# Altium integrated library Renesas Memory.IntLib: 284 symbols (part 5 of 9)
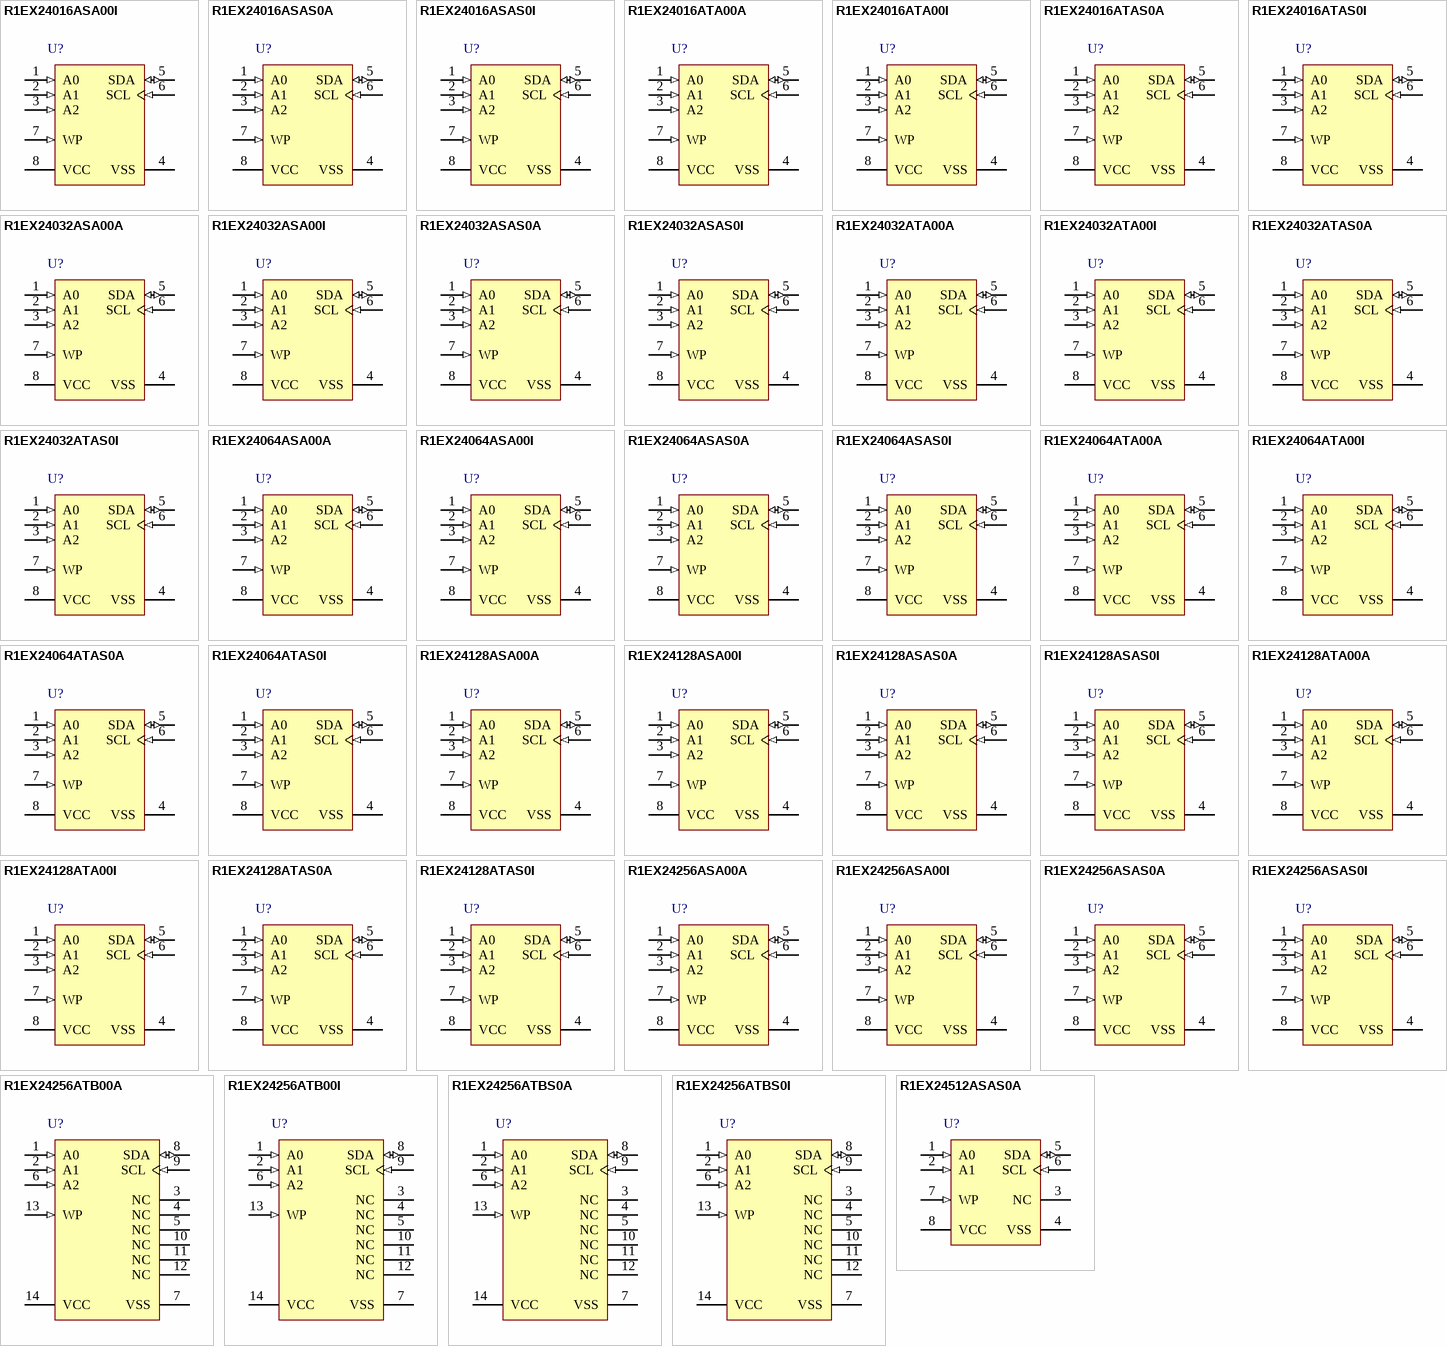
[diagram p19: symbols R1EX24016ASA00I to R1EX24512ASAS0A]

## R1EX24256ATBS0A
designator U?
R1EX24xxx Series two-wire serial interface 256k EEPROM (32-kword × 8-bit); Published: 3-Mar-2010; DatasheetVersion: Rev.1.01, Jan-2009; PackageVersion: Sep-2005; PackageReference: PTSP0014JA-B; Publisher: Altium Limited; PackageDescription: 14-Pin Plastic Thin Small Outline Package 0.65 mm Pitch; Code_JEITA: P-TSSOP14-4.4x5-0.65; ComponentLink1Description: Manufacturer Link; ComponentLink1URL: http://sg.renesas.com/products/memory/memory_category_landing.jsp; ComponentLink2Description: Datasheet; ComponentLink2URL: http://documentation.renesas.com/eng/products/memory/rej03c0322_r1ex24256axxs0ads.pdf; ComponentLink3Description: Packaging Specification; ComponentLink3URL: http://sg.renesas.com/media/products/common_info/package/pdf/ic/code/ptsp0014ja_b.pdf
footprint PTSP0014JA-B_N (TSOP, 14-Leads, Body 5x4.4mm, Pitch 0.65mm, IPC Medium Density)
footprint PTSP0014JA-B_L (TSOP, 14-Leads, Body 5x4.4mm, Pitch 0.65mm, IPC High Density)
footprint PTSP0014JA-B_M (TSOP, 14-Leads, Body 5x4.4mm, Pitch 0.65mm, IPC Low Density)
pins: 1 A0 (in), 2 A1 (in), 3 NC, 4 NC, 5 NC, 6 A2 (in), 7 VSS (power), 8 SDA (io), 9 SCL (in), 10 NC, 11 NC, 12 NC, 13 WP (in), 14 VCC (power)

## R1EX24256ATBS0I
designator U?
R1EX24xxx Series two-wire serial interface 256k EEPROM (32-kword × 8-bit); Published: 3-Mar-2010; DatasheetVersion: Rev.1.00, Oct-2009; PackageVersion: Sep-2005; PackageReference: PTSP0014JA-B; Publisher: Altium Limited; PackageDescription: 14-Pin Plastic Thin Small Outline Package 0.65 mm Pitch; Code_JEITA: P-TSSOP14-4.4x5-0.65; ComponentLink1Description: Manufacturer Link; ComponentLink1URL: http://sg.renesas.com/products/memory/memory_category_landing.jsp; ComponentLink2Description: Datasheet; ComponentLink2URL: http://documentation.renesas.com/eng/products/memory/rej03c0327_r1ex24256axxs0ids.pdf; ComponentLink3Description: Packaging Specification; ComponentLink3URL: http://sg.renesas.com/media/products/common_info/package/pdf/ic/code/ptsp0014ja_b.pdf
footprint PTSP0014JA-B_N (TSOP, 14-Leads, Body 5x4.4mm, Pitch 0.65mm, IPC Medium Density)
footprint PTSP0014JA-B_L (TSOP, 14-Leads, Body 5x4.4mm, Pitch 0.65mm, IPC High Density)
footprint PTSP0014JA-B_M (TSOP, 14-Leads, Body 5x4.4mm, Pitch 0.65mm, IPC Low Density)
pins: 1 A0 (in), 2 A1 (in), 3 NC, 4 NC, 5 NC, 6 A2 (in), 7 VSS (power), 8 SDA (io), 9 SCL (in), 10 NC, 11 NC, 12 NC, 13 WP (in), 14 VCC (power)

## R1EX24512ASAS0A
designator U?
R1EX24xxx Series two-wire serial interface 512k EEPROM (64-kword × 8-bit); Published: 3-Mar-2010; DatasheetVersion: Rev.1.01, Jan-2009; PackageVersion: Sep-2005; PackageReference: PRSP0008DF-B; Publisher: Altium Limited; PackageDescription: 8-Pin Plastic Small Outline Integrated Circuit 1.27 mm Pitch; Code_JEITA: P-SOP8-3.9x4.89-1.27; ComponentLink1Description: Manufacturer Link; ComponentLink1URL: http://sg.renesas.com/products/memory/memory_category_landing.jsp; ComponentLink2Description: Datasheet; ComponentLink2URL: http://documentation.renesas.com/eng/products/memory/rej03c0325_r1ex24512axxs0ads.pdf; ComponentLink3Description: Packaging Specification; ComponentLink3URL: http://sg.renesas.com/media/products/common_info/package/pdf/ic/code/prsp0008df_b.pdf
footprint PRSP0008DF-B_N (SOIC, 8-Leads, Body 4.9x3.9mm, Pitch 1.27mm, IPC Medium Density)
footprint PRSP0008DF-B_L (SOIC, 8-Leads, Body 4.9x3.9mm, Pitch 1.27mm, IPC High Density)
footprint PRSP0008DF-B_M (SOIC, 8-Leads, Body 4.9x3.9mm, Pitch 1.27mm, IPC Low Density)
pins: 1 A0 (in), 2 A1 (in), 3 NC, 4 VSS (power), 5 SDA (io), 6 SCL (in), 7 WP (in), 8 VCC (power)

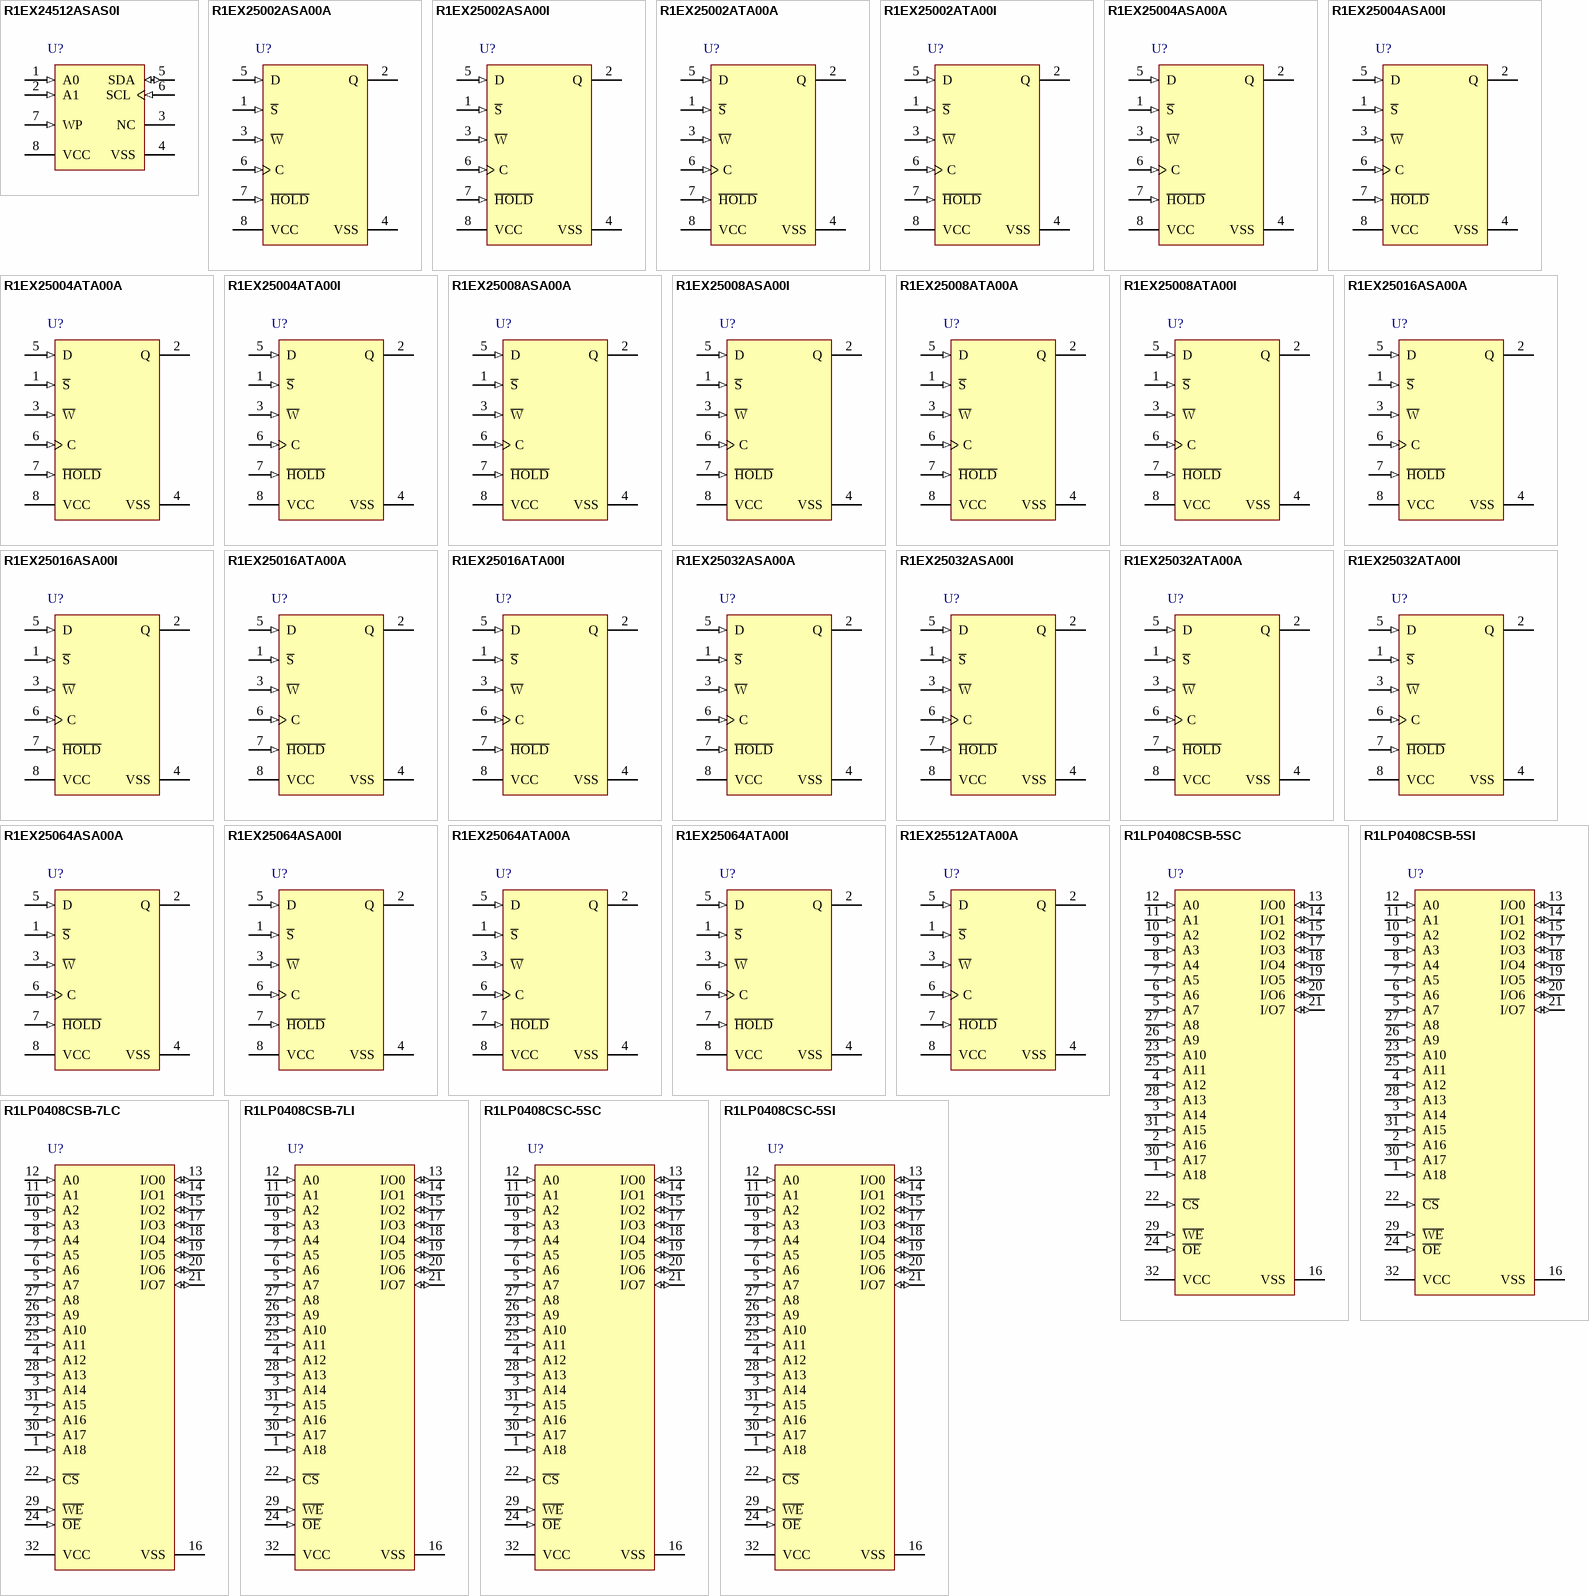
[diagram p7: symbols R1EX24512ASAS0I to R1LP0408CSC-5SI]

## R1EX24512ASAS0I
designator U?
R1EX24xxx Series two-wire serial interface 512k EEPROM (64-kword × 8-bit); Published: 3-Mar-2010; DatasheetVersion: Rev.0.03, Jan-2009; PackageVersion: Sep-2005; PackageReference: PRSP0008DF-B; Publisher: Altium Limited; PackageDescription: 8-Pin Plastic Small Outline Integrated Circuit 1.27 mm Pitch; Code_JEITA: P-SOP8-3.9x4.89-1.27; ComponentLink1Description: Manufacturer Link; ComponentLink1URL: http://sg.renesas.com/products/memory/memory_category_landing.jsp; ComponentLink2Description: Datasheet; ComponentLink2URL: http://documentation.renesas.com/eng/products/memory/rej03c0330_r1ex24512asas0ids.pdf; ComponentLink3Description: Packaging Specification; ComponentLink3URL: http://sg.renesas.com/media/products/common_info/package/pdf/ic/code/prsp0008df_b.pdf
footprint PRSP0008DF-B_N (SOIC, 8-Leads, Body 4.9x3.9mm, Pitch 1.27mm, IPC Medium Density)
footprint PRSP0008DF-B_L (SOIC, 8-Leads, Body 4.9x3.9mm, Pitch 1.27mm, IPC High Density)
footprint PRSP0008DF-B_M (SOIC, 8-Leads, Body 4.9x3.9mm, Pitch 1.27mm, IPC Low Density)
pins: 1 A0 (in), 2 A1 (in), 3 NC, 4 VSS (power), 5 SDA (io), 6 SCL (in), 7 WP (in), 8 VCC (power)

## R1EX25002ASA00A
designator U?
R1EX25xxx Series Serial Peripheral Interface 2k EEPROM (256-word × 8-bit); Published: 3-Mar-2010; DatasheetVersion: Rev.0.02, Jan-2009; PackageVersion: Sep-2005; PackageReference: PRSP0008DF-B; Publisher: Altium Limited; PackageDescription: 8-Pin Plastic Small Outline Integrated Circuit 1.27 mm Pitch; Code_JEITA: P-SOP8-3.9x4.89-1.27; ComponentLink1Description: Manufacturer Link; ComponentLink1URL: http://sg.renesas.com/products/memory/memory_category_landing.jsp; ComponentLink2Description: Datasheet; ComponentLink2URL: http://documentation.renesas.com/eng/products/memory/rej03c0357_r1ex2500204axx00ads.pdf; ComponentLink3Description: Packaging Specification; ComponentLink3URL: http://sg.renesas.com/media/products/common_info/package/pdf/ic/code/prsp0008df_b.pdf
footprint PRSP0008DF-B_N (SOIC, 8-Leads, Body 4.9x3.9mm, Pitch 1.27mm, IPC Medium Density)
footprint PRSP0008DF-B_L (SOIC, 8-Leads, Body 4.9x3.9mm, Pitch 1.27mm, IPC High Density)
footprint PRSP0008DF-B_M (SOIC, 8-Leads, Body 4.9x3.9mm, Pitch 1.27mm, IPC Low Density)
pins: 1 ~{S} (in), 2 Q (hiz), 3 ~{W} (in), 4 VSS (power), 5 D (in), 6 C (in), 7 ~{HOLD} (in), 8 VCC (power)

## R1EX25002ASA00I
designator U?
R1EX25xxx Series Serial Peripheral Interface 2k EEPROM (256-word × 8-bit); Published: 3-Mar-2010; DatasheetVersion: Rev.0.02, Jan-2009; PackageVersion: Sep-2005; PackageReference: PRSP0008DF-B; Publisher: Altium Limited; PackageDescription: 8-Pin Plastic Small Outline Integrated Circuit 1.27 mm Pitch; Code_JEITA: P-SOP8-3.9x4.89-1.27; ComponentLink1Description: Manufacturer Link; ComponentLink1URL: http://sg.renesas.com/products/memory/memory_category_landing.jsp; ComponentLink2Description: Datasheet; ComponentLink2URL: http://documentation.renesas.com/eng/products/memory/rej03c0361_r1ex2500204axx00ids.pdf; ComponentLink3Description: Packaging Specification; ComponentLink3URL: http://sg.renesas.com/media/products/common_info/package/pdf/ic/code/prsp0008df_b.pdf
footprint PRSP0008DF-B_N (SOIC, 8-Leads, Body 4.9x3.9mm, Pitch 1.27mm, IPC Medium Density)
footprint PRSP0008DF-B_L (SOIC, 8-Leads, Body 4.9x3.9mm, Pitch 1.27mm, IPC High Density)
footprint PRSP0008DF-B_M (SOIC, 8-Leads, Body 4.9x3.9mm, Pitch 1.27mm, IPC Low Density)
pins: 1 ~{S} (in), 2 Q (hiz), 3 ~{W} (in), 4 VSS (power), 5 D (in), 6 C (in), 7 ~{HOLD} (in), 8 VCC (power)

## R1EX25002ATA00A
designator U?
R1EX25xxx Series Serial Peripheral Interface 2k EEPROM (256-word × 8-bit); Published: 3-Mar-2010; DatasheetVersion: Rev.0.02, Jan-2009; PackageVersion: Sep-2005; PackageReference: PTSP0008JC-B; Publisher: Altium Limited; PackageDescription: 8-Pin Plastic Thin Small Outline Package 0.65 mm Pitch (TSSOP-8); Code_JEITA: P-TSSOP8-4.4x3-0.65; ComponentLink1Description: Manufacturer Link; ComponentLink1URL: http://sg.renesas.com/products/memory/memory_category_landing.jsp; ComponentLink2Description: Datasheet; ComponentLink2URL: http://documentation.renesas.com/eng/products/memory/rej03c0357_r1ex2500204axx00ads.pdf; ComponentLink3Description: Packaging Specification; ComponentLink3URL: http://sg.renesas.com/media/products/common_info/package/pdf/ic/code/ptsp0008jc_b.pdf
footprint PTSP0008JC-B_N (TSOP, 8-Leads, Body 3x4.4mm, Pitch 0.65mm, IPC Medium Density)
footprint PTSP0008JC-B_L (TSOP, 8-Leads, Body 3x4.4mm, Pitch 0.65mm, IPC High Density)
footprint PTSP0008JC-B_M (TSOP, 8-Leads, Body 3x4.4mm, Pitch 0.65mm, IPC Low Density)
pins: 1 ~{S} (in), 2 Q (hiz), 3 ~{W} (in), 4 VSS (power), 5 D (in), 6 C (in), 7 ~{HOLD} (in), 8 VCC (power)

## R1EX25002ATA00I
designator U?
R1EX25xxx Series Serial Peripheral Interface 2k EEPROM (256-word × 8-bit); Published: 3-Mar-2010; DatasheetVersion: Rev.0.02, Jan-2009; PackageVersion: Sep-2005; PackageReference: PTSP0008JC-B; Publisher: Altium Limited; PackageDescription: 8-Pin Plastic Thin Small Outline Package 0.65 mm Pitch (TSSOP-8); Code_JEITA: P-TSSOP8-4.4x3-0.65; ComponentLink1Description: Manufacturer Link; ComponentLink1URL: http://sg.renesas.com/products/memory/memory_category_landing.jsp; ComponentLink2Description: Datasheet; ComponentLink2URL: http://documentation.renesas.com/eng/products/memory/rej03c0361_r1ex2500204axx00ids.pdf; ComponentLink3Description: Packaging Specification; ComponentLink3URL: http://sg.renesas.com/media/products/common_info/package/pdf/ic/code/ptsp0008jc_b.pdf
footprint PTSP0008JC-B_N (TSOP, 8-Leads, Body 3x4.4mm, Pitch 0.65mm, IPC Medium Density)
footprint PTSP0008JC-B_L (TSOP, 8-Leads, Body 3x4.4mm, Pitch 0.65mm, IPC High Density)
footprint PTSP0008JC-B_M (TSOP, 8-Leads, Body 3x4.4mm, Pitch 0.65mm, IPC Low Density)
pins: 1 ~{S} (in), 2 Q (hiz), 3 ~{W} (in), 4 VSS (power), 5 D (in), 6 C (in), 7 ~{HOLD} (in), 8 VCC (power)

## R1EX25004ASA00A
designator U?
R1EX25xxx Series Serial Peripheral Interface 4k EEPROM (512-word × 8-bit); Published: 3-Mar-2010; DatasheetVersion: Rev.0.02, Jan-2009; PackageVersion: Sep-2005; PackageReference: PRSP0008DF-B; Publisher: Altium Limited; PackageDescription: 8-Pin Plastic Small Outline Integrated Circuit 1.27 mm Pitch; Code_JEITA: P-SOP8-3.9x4.89-1.27; ComponentLink1Description: Manufacturer Link; ComponentLink1URL: http://sg.renesas.com/products/memory/memory_category_landing.jsp; ComponentLink2Description: Datasheet; ComponentLink2URL: http://documentation.renesas.com/eng/products/memory/rej03c0357_r1ex2500204axx00ads.pdf; ComponentLink3Description: Packaging Specification; ComponentLink3URL: http://sg.renesas.com/media/products/common_info/package/pdf/ic/code/prsp0008df_b.pdf
footprint PRSP0008DF-B_N (SOIC, 8-Leads, Body 4.9x3.9mm, Pitch 1.27mm, IPC Medium Density)
footprint PRSP0008DF-B_L (SOIC, 8-Leads, Body 4.9x3.9mm, Pitch 1.27mm, IPC High Density)
footprint PRSP0008DF-B_M (SOIC, 8-Leads, Body 4.9x3.9mm, Pitch 1.27mm, IPC Low Density)
pins: 1 ~{S} (in), 2 Q (hiz), 3 ~{W} (in), 4 VSS (power), 5 D (in), 6 C (in), 7 ~{HOLD} (in), 8 VCC (power)

## R1EX25004ASA00I
designator U?
R1EX25xxx Series Serial Peripheral Interface 4k EEPROM (512-word × 8-bit); Published: 3-Mar-2010; DatasheetVersion: Rev.0.02, Jan-2009; PackageVersion: Sep-2005; PackageReference: PRSP0008DF-B; Publisher: Altium Limited; PackageDescription: 8-Pin Plastic Small Outline Integrated Circuit 1.27 mm Pitch; Code_JEITA: P-SOP8-3.9x4.89-1.27; ComponentLink1Description: Manufacturer Link; ComponentLink1URL: http://sg.renesas.com/products/memory/memory_category_landing.jsp; ComponentLink2Description: Datasheet; ComponentLink2URL: http://documentation.renesas.com/eng/products/memory/rej03c0361_r1ex2500204axx00ids.pdf; ComponentLink3Description: Packaging Specification; ComponentLink3URL: http://sg.renesas.com/media/products/common_info/package/pdf/ic/code/prsp0008df_b.pdf
footprint PRSP0008DF-B_N (SOIC, 8-Leads, Body 4.9x3.9mm, Pitch 1.27mm, IPC Medium Density)
footprint PRSP0008DF-B_L (SOIC, 8-Leads, Body 4.9x3.9mm, Pitch 1.27mm, IPC High Density)
footprint PRSP0008DF-B_M (SOIC, 8-Leads, Body 4.9x3.9mm, Pitch 1.27mm, IPC Low Density)
pins: 1 ~{S} (in), 2 Q (hiz), 3 ~{W} (in), 4 VSS (power), 5 D (in), 6 C (in), 7 ~{HOLD} (in), 8 VCC (power)

## R1EX25004ATA00A
designator U?
R1EX25xxx Series Serial Peripheral Interface 4k EEPROM (512-word × 8-bit); Published: 3-Mar-2010; DatasheetVersion: Rev.0.02, Jan-2009; PackageVersion: Sep-2005; PackageReference: PTSP0008JC-B; Publisher: Altium Limited; PackageDescription: 8-Pin Plastic Thin Small Outline Package 0.65 mm Pitch (TSSOP-8); Code_JEITA: P-TSSOP8-4.4x3-0.65; ComponentLink1Description: Manufacturer Link; ComponentLink1URL: http://sg.renesas.com/products/memory/memory_category_landing.jsp; ComponentLink2Description: Datasheet; ComponentLink2URL: http://documentation.renesas.com/eng/products/memory/rej03c0357_r1ex2500204axx00ads.pdf; ComponentLink3Description: Packaging Specification; ComponentLink3URL: http://sg.renesas.com/media/products/common_info/package/pdf/ic/code/ptsp0008jc_b.pdf
footprint PTSP0008JC-B_N (TSOP, 8-Leads, Body 3x4.4mm, Pitch 0.65mm, IPC Medium Density)
footprint PTSP0008JC-B_L (TSOP, 8-Leads, Body 3x4.4mm, Pitch 0.65mm, IPC High Density)
footprint PTSP0008JC-B_M (TSOP, 8-Leads, Body 3x4.4mm, Pitch 0.65mm, IPC Low Density)
pins: 1 ~{S} (in), 2 Q (hiz), 3 ~{W} (in), 4 VSS (power), 5 D (in), 6 C (in), 7 ~{HOLD} (in), 8 VCC (power)

## R1EX25004ATA00I
designator U?
R1EX25xxx Series Serial Peripheral Interface 4k EEPROM (512-word × 8-bit); Published: 3-Mar-2010; DatasheetVersion: Rev.0.02, Jan-2009; PackageVersion: Sep-2005; PackageReference: PTSP0008JC-B; Publisher: Altium Limited; PackageDescription: 8-Pin Plastic Thin Small Outline Package 0.65 mm Pitch (TSSOP-8); Code_JEITA: P-TSSOP8-4.4x3-0.65; ComponentLink1Description: Manufacturer Link; ComponentLink1URL: http://sg.renesas.com/products/memory/memory_category_landing.jsp; ComponentLink2Description: Datasheet; ComponentLink2URL: http://documentation.renesas.com/eng/products/memory/rej03c0361_r1ex2500204axx00ids.pdf; ComponentLink3Description: Packaging Specification; ComponentLink3URL: http://sg.renesas.com/media/products/common_info/package/pdf/ic/code/ptsp0008jc_b.pdf
footprint PTSP0008JC-B_N (TSOP, 8-Leads, Body 3x4.4mm, Pitch 0.65mm, IPC Medium Density)
footprint PTSP0008JC-B_L (TSOP, 8-Leads, Body 3x4.4mm, Pitch 0.65mm, IPC High Density)
footprint PTSP0008JC-B_M (TSOP, 8-Leads, Body 3x4.4mm, Pitch 0.65mm, IPC Low Density)
pins: 1 ~{S} (in), 2 Q (hiz), 3 ~{W} (in), 4 VSS (power), 5 D (in), 6 C (in), 7 ~{HOLD} (in), 8 VCC (power)

## R1EX25008ASA00A
designator U?
R1EX25xxx Series Serial Peripheral Interface 8k EEPROM (1024-word × 8-bit); Published: 3-Mar-2010; DatasheetVersion: Rev.1.00, Jul-2009; PackageVersion: Sep-2005; PackageReference: PRSP0008DF-B; Publisher: Altium Limited; PackageDescription: 8-Pin Plastic Small Outline Integrated Circuit 1.27 mm Pitch; Code_JEITA: P-SOP8-3.9x4.89-1.27; ComponentLink1Description: Manufacturer Link; ComponentLink1URL: http://sg.renesas.com/products/memory/memory_category_landing.jsp; ComponentLink2Description: Datasheet; ComponentLink2URL: http://documentation.renesas.com/eng/products/memory/rej03c0385_r1ex2500816axx00ads.pdf; ComponentLink3Description: Packaging Specification; ComponentLink3URL: http://sg.renesas.com/media/products/common_info/package/pdf/ic/code/prsp0008df_b.pdf
footprint PRSP0008DF-B_N (SOIC, 8-Leads, Body 4.9x3.9mm, Pitch 1.27mm, IPC Medium Density)
footprint PRSP0008DF-B_L (SOIC, 8-Leads, Body 4.9x3.9mm, Pitch 1.27mm, IPC High Density)
footprint PRSP0008DF-B_M (SOIC, 8-Leads, Body 4.9x3.9mm, Pitch 1.27mm, IPC Low Density)
pins: 1 ~{S} (in), 2 Q (hiz), 3 ~{W} (in), 4 VSS (power), 5 D (in), 6 C (in), 7 ~{HOLD} (in), 8 VCC (power)

## R1EX25008ASA00I
designator U?
R1EX25xxx Series Serial Peripheral Interface 8k EEPROM (1024-word × 8-bit); Published: 3-Mar-2010; DatasheetVersion: Rev.1.00, Nov-2009; PackageVersion: Sep-2005; PackageReference: PRSP0008DF-B; Publisher: Altium Limited; PackageDescription: 8-Pin Plastic Small Outline Integrated Circuit 1.27 mm Pitch; Code_JEITA: P-SOP8-3.9x4.89-1.27; ComponentLink1Description: Manufacturer Link; ComponentLink1URL: http://sg.renesas.com/products/memory/memory_category_landing.jsp; ComponentLink2Description: Datasheet; ComponentLink2URL: http://documentation.renesas.com/eng/products/memory/rej03c0396_r1ex2500816axx00ids.pdf; ComponentLink3Description: Packaging Specification; ComponentLink3URL: http://sg.renesas.com/media/products/common_info/package/pdf/ic/code/prsp0008df_b.pdf
footprint PRSP0008DF-B_N (SOIC, 8-Leads, Body 4.9x3.9mm, Pitch 1.27mm, IPC Medium Density)
footprint PRSP0008DF-B_L (SOIC, 8-Leads, Body 4.9x3.9mm, Pitch 1.27mm, IPC High Density)
footprint PRSP0008DF-B_M (SOIC, 8-Leads, Body 4.9x3.9mm, Pitch 1.27mm, IPC Low Density)
pins: 1 ~{S} (in), 2 Q (hiz), 3 ~{W} (in), 4 VSS (power), 5 D (in), 6 C (in), 7 ~{HOLD} (in), 8 VCC (power)

## R1EX25008ATA00A
designator U?
R1EX25xxx Series Serial Peripheral Interface 8k EEPROM (1024-word × 8-bit); Published: 3-Mar-2010; DatasheetVersion: Rev.1.00, Jul-2009; PackageVersion: Sep-2007; PackageReference: PTSP0008JB-B; Publisher: Altium Limited; PackageDescription: 8-Pin Plastic Thin Small Outline Package 0.65 mm Pitch (TSSOP-8); Code_JEITA: P-TSSOP8-4.4×3-0.65; ComponentLink1Description: Manufacturer Link; ComponentLink1URL: http://sg.renesas.com/products/memory/memory_category_landing.jsp; ComponentLink2Description: Datasheet; ComponentLink2URL: http://documentation.renesas.com/eng/products/memory/rej03c0385_r1ex2500816axx00ads.pdf
footprint PTSP0008JB-B_N (TSOP, 8-Leads, Body 3x4.4mm, Pitch 0.65mm, IPC Medium Density)
footprint PTSP0008JB-B_L (TSOP, 8-Leads, Body 3x4.4mm, Pitch 0.65mm, IPC High Density)
footprint PTSP0008JB-B_M (TSOP, 8-Leads, Body 3x4.4mm, Pitch 0.65mm, IPC Low Density)
pins: 1 ~{S} (in), 2 Q (hiz), 3 ~{W} (in), 4 VSS (power), 5 D (in), 6 C (in), 7 ~{HOLD} (in), 8 VCC (power)

## R1EX25008ATA00I
designator U?
R1EX25xxx Series Serial Peripheral Interface 8k EEPROM (1024-word × 8-bit); Published: 3-Mar-2010; DatasheetVersion: Rev.1.00, Nov-2009; PackageVersion: Sep-2005; PackageReference: PTSP0008JC-B; Publisher: Altium Limited; PackageDescription: 8-Pin Plastic Thin Small Outline Package 0.65 mm Pitch (TSSOP-8); Code_JEITA: P-TSSOP8-4.4x3-0.65; ComponentLink1Description: Manufacturer Link; ComponentLink1URL: http://sg.renesas.com/products/memory/memory_category_landing.jsp; ComponentLink2Description: Datasheet; ComponentLink2URL: http://documentation.renesas.com/eng/products/memory/rej03c0396_r1ex2500816axx00ids.pdf; ComponentLink3Description: Packaging Specification; ComponentLink3URL: http://sg.renesas.com/media/products/common_info/package/pdf/ic/code/ptsp0008jc_b.pdf
footprint PTSP0008JC-B_N (TSOP, 8-Leads, Body 3x4.4mm, Pitch 0.65mm, IPC Medium Density)
footprint PTSP0008JC-B_L (TSOP, 8-Leads, Body 3x4.4mm, Pitch 0.65mm, IPC High Density)
footprint PTSP0008JC-B_M (TSOP, 8-Leads, Body 3x4.4mm, Pitch 0.65mm, IPC Low Density)
pins: 1 ~{S} (in), 2 Q (hiz), 3 ~{W} (in), 4 VSS (power), 5 D (in), 6 C (in), 7 ~{HOLD} (in), 8 VCC (power)

## R1EX25016ASA00A
designator U?
R1EX25xxx Series Serial Peripheral Interface 16k EEPROM (2048-word × 8-bit); Published: 3-Mar-2010; DatasheetVersion: Rev.1.00, Jul-2009; PackageVersion: Sep-2005; PackageReference: PRSP0008DF-B; Publisher: Altium Limited; PackageDescription: 8-Pin Plastic Small Outline Integrated Circuit 1.27 mm Pitch; Code_JEITA: P-SOP8-3.9x4.89-1.27; ComponentLink1Description: Manufacturer Link; ComponentLink1URL: http://sg.renesas.com/products/memory/memory_category_landing.jsp; ComponentLink2Description: Datasheet; ComponentLink2URL: http://documentation.renesas.com/eng/products/memory/rej03c0385_r1ex2500816axx00ads.pdf; ComponentLink3Description: Packaging Specification; ComponentLink3URL: http://sg.renesas.com/media/products/common_info/package/pdf/ic/code/prsp0008df_b.pdf
footprint PRSP0008DF-B_N (SOIC, 8-Leads, Body 4.9x3.9mm, Pitch 1.27mm, IPC Medium Density)
footprint PRSP0008DF-B_L (SOIC, 8-Leads, Body 4.9x3.9mm, Pitch 1.27mm, IPC High Density)
footprint PRSP0008DF-B_M (SOIC, 8-Leads, Body 4.9x3.9mm, Pitch 1.27mm, IPC Low Density)
pins: 1 ~{S} (in), 2 Q (hiz), 3 ~{W} (in), 4 VSS (power), 5 D (in), 6 C (in), 7 ~{HOLD} (in), 8 VCC (power)

## R1EX25016ASA00I
designator U?
R1EX25xxx Series Serial Peripheral Interface 16k EEPROM (2048-word × 8-bit); Published: 3-Mar-2010; DatasheetVersion: Rev.1.00, Nov-2009; PackageVersion: Sep-2005; PackageReference: PRSP0008DF-B; Publisher: Altium Limited; PackageDescription: 8-Pin Plastic Small Outline Integrated Circuit 1.27 mm Pitch; Code_JEITA: P-SOP8-3.9x4.89-1.27; ComponentLink1Description: Manufacturer Link; ComponentLink1URL: http://sg.renesas.com/products/memory/memory_category_landing.jsp; ComponentLink2Description: Datasheet; ComponentLink2URL: http://documentation.renesas.com/eng/products/memory/rej03c0396_r1ex2500816axx00ids.pdf; ComponentLink3Description: Packaging Specification; ComponentLink3URL: http://sg.renesas.com/media/products/common_info/package/pdf/ic/code/prsp0008df_b.pdf
footprint PRSP0008DF-B_N (SOIC, 8-Leads, Body 4.9x3.9mm, Pitch 1.27mm, IPC Medium Density)
footprint PRSP0008DF-B_L (SOIC, 8-Leads, Body 4.9x3.9mm, Pitch 1.27mm, IPC High Density)
footprint PRSP0008DF-B_M (SOIC, 8-Leads, Body 4.9x3.9mm, Pitch 1.27mm, IPC Low Density)
pins: 1 ~{S} (in), 2 Q (hiz), 3 ~{W} (in), 4 VSS (power), 5 D (in), 6 C (in), 7 ~{HOLD} (in), 8 VCC (power)

## R1EX25016ATA00A
designator U?
R1EX25xxx Series Serial Peripheral Interface 16k EEPROM (2048-word × 8-bit); Published: 3-Mar-2010; DatasheetVersion: Rev.1.00, Jul-2009; PackageVersion: Sep-2007; PackageReference: PTSP0008JB-B; Publisher: Altium Limited; PackageDescription: 8-Pin Plastic Thin Small Outline Package 0.65 mm Pitch (TSSOP-8); Code_JEITA: P-TSSOP8-4.4×3-0.65; ComponentLink1Description: Manufacturer Link; ComponentLink1URL: http://sg.renesas.com/products/memory/memory_category_landing.jsp; ComponentLink2Description: Datasheet; ComponentLink2URL: http://documentation.renesas.com/eng/products/memory/rej03c0385_r1ex2500816axx00ads.pdf
footprint PTSP0008JB-B_N (TSOP, 8-Leads, Body 3x4.4mm, Pitch 0.65mm, IPC Medium Density)
footprint PTSP0008JB-B_L (TSOP, 8-Leads, Body 3x4.4mm, Pitch 0.65mm, IPC High Density)
footprint PTSP0008JB-B_M (TSOP, 8-Leads, Body 3x4.4mm, Pitch 0.65mm, IPC Low Density)
pins: 1 ~{S} (in), 2 Q (hiz), 3 ~{W} (in), 4 VSS (power), 5 D (in), 6 C (in), 7 ~{HOLD} (in), 8 VCC (power)

## R1EX25016ATA00I
designator U?
R1EX25xxx Series Serial Peripheral Interface 16k EEPROM (2048-word × 8-bit); Published: 3-Mar-2010; DatasheetVersion: Rev.1.00, Nov-2009; PackageVersion: Sep-2005; PackageReference: PTSP0008JC-B; Publisher: Altium Limited; PackageDescription: 8-Pin Plastic Thin Small Outline Package 0.65 mm Pitch (TSSOP-8); Code_JEITA: P-TSSOP8-4.4x3-0.65; ComponentLink1Description: Manufacturer Link; ComponentLink1URL: http://sg.renesas.com/products/memory/memory_category_landing.jsp; ComponentLink2Description: Datasheet; ComponentLink2URL: http://documentation.renesas.com/eng/products/memory/rej03c0396_r1ex2500816axx00ids.pdf; ComponentLink3Description: Packaging Specification; ComponentLink3URL: http://sg.renesas.com/media/products/common_info/package/pdf/ic/code/ptsp0008jc_b.pdf
footprint PTSP0008JC-B_N (TSOP, 8-Leads, Body 3x4.4mm, Pitch 0.65mm, IPC Medium Density)
footprint PTSP0008JC-B_L (TSOP, 8-Leads, Body 3x4.4mm, Pitch 0.65mm, IPC High Density)
footprint PTSP0008JC-B_M (TSOP, 8-Leads, Body 3x4.4mm, Pitch 0.65mm, IPC Low Density)
pins: 1 ~{S} (in), 2 Q (hiz), 3 ~{W} (in), 4 VSS (power), 5 D (in), 6 C (in), 7 ~{HOLD} (in), 8 VCC (power)

## R1EX25032ASA00A
designator U?
R1EX25xxx Series Serial Peripheral Interface 32k EEPROM (4-kword × 8-bit); Published: 3-Mar-2010; DatasheetVersion: Rev.0.02, Jan-2009; PackageVersion: Sep-2005; PackageReference: PRSP0008DF-B; Publisher: Altium Limited; PackageDescription: 8-Pin Plastic Small Outline Integrated Circuit 1.27 mm Pitch; Code_JEITA: P-SOP8-3.9x4.89-1.27; ComponentLink1Description: Manufacturer Link; ComponentLink1URL: http://sg.renesas.com/products/memory/memory_category_landing.jsp; ComponentLink2Description: Datasheet; ComponentLink2URL: http://documentation.renesas.com/eng/products/memory/rej03c0358_r1ex2503264axx00ads.pdf; ComponentLink3Description: Packaging Specification; ComponentLink3URL: http://sg.renesas.com/media/products/common_info/package/pdf/ic/code/prsp0008df_b.pdf
footprint PRSP0008DF-B_N (SOIC, 8-Leads, Body 4.9x3.9mm, Pitch 1.27mm, IPC Medium Density)
footprint PRSP0008DF-B_L (SOIC, 8-Leads, Body 4.9x3.9mm, Pitch 1.27mm, IPC High Density)
footprint PRSP0008DF-B_M (SOIC, 8-Leads, Body 4.9x3.9mm, Pitch 1.27mm, IPC Low Density)
pins: 1 ~{S} (in), 2 Q (hiz), 3 ~{W} (in), 4 VSS (power), 5 D (in), 6 C (in), 7 ~{HOLD} (in), 8 VCC (power)

## R1EX25032ASA00I
designator U?
R1EX25xxx Series Serial Peripheral Interface 32k EEPROM (4-kword × 8-bit); Published: 3-Mar-2010; DatasheetVersion: Rev.0.02, Jan-2009; PackageVersion: Sep-2005; PackageReference: PRSP0008DF-B; Publisher: Altium Limited; PackageDescription: 8-Pin Plastic Small Outline Integrated Circuit 1.27 mm Pitch; Code_JEITA: P-SOP8-3.9x4.89-1.27; ComponentLink1Description: Manufacturer Link; ComponentLink1URL: http://sg.renesas.com/products/memory/memory_category_landing.jsp; ComponentLink2Description: Datasheet; ComponentLink2URL: http://documentation.renesas.com/eng/products/memory/rej03c0362_r1ex2503264axx00ids.pdf; ComponentLink3Description: Packaging Specification; ComponentLink3URL: http://sg.renesas.com/media/products/common_info/package/pdf/ic/code/prsp0008df_b.pdf
footprint PRSP0008DF-B_N (SOIC, 8-Leads, Body 4.9x3.9mm, Pitch 1.27mm, IPC Medium Density)
footprint PRSP0008DF-B_L (SOIC, 8-Leads, Body 4.9x3.9mm, Pitch 1.27mm, IPC High Density)
footprint PRSP0008DF-B_M (SOIC, 8-Leads, Body 4.9x3.9mm, Pitch 1.27mm, IPC Low Density)
pins: 1 ~{S} (in), 2 Q (hiz), 3 ~{W} (in), 4 VSS (power), 5 D (in), 6 C (in), 7 ~{HOLD} (in), 8 VCC (power)

## R1EX25032ATA00A
designator U?
R1EX25xxx Series Serial Peripheral Interface 32k EEPROM (4-kword × 8-bit); Published: 3-Mar-2010; DatasheetVersion: Rev.0.02, Jan-2009; PackageVersion: Sep-2005; PackageReference: PTSP0008JC-B; Publisher: Altium Limited; PackageDescription: 8-Pin Plastic Thin Small Outline Package 0.65 mm Pitch (TSSOP-8); Code_JEITA: P-TSSOP8-4.4x3-0.65; ComponentLink1Description: Manufacturer Link; ComponentLink1URL: http://sg.renesas.com/products/memory/memory_category_landing.jsp; ComponentLink2Description: Datasheet; ComponentLink2URL: http://documentation.renesas.com/eng/products/memory/rej03c0358_r1ex2503264axx00ads.pdf; ComponentLink3Description: Packaging Specification; ComponentLink3URL: http://sg.renesas.com/media/products/common_info/package/pdf/ic/code/ptsp0008jc_b.pdf
footprint PTSP0008JC-B_N (TSOP, 8-Leads, Body 3x4.4mm, Pitch 0.65mm, IPC Medium Density)
footprint PTSP0008JC-B_L (TSOP, 8-Leads, Body 3x4.4mm, Pitch 0.65mm, IPC High Density)
footprint PTSP0008JC-B_M (TSOP, 8-Leads, Body 3x4.4mm, Pitch 0.65mm, IPC Low Density)
pins: 1 ~{S} (in), 2 Q (hiz), 3 ~{W} (in), 4 VSS (power), 5 D (in), 6 C (in), 7 ~{HOLD} (in), 8 VCC (power)

## R1EX25032ATA00I
designator U?
R1EX25xxx Series Serial Peripheral Interface 32k EEPROM (4-kword × 8-bit); Published: 3-Mar-2010; DatasheetVersion: Rev.0.02, Jan-2009; PackageVersion: Sep-2005; PackageReference: PTSP0008JC-B; Publisher: Altium Limited; PackageDescription: 8-Pin Plastic Thin Small Outline Package 0.65 mm Pitch (TSSOP-8); Code_JEITA: P-TSSOP8-4.4x3-0.65; ComponentLink1Description: Manufacturer Link; ComponentLink1URL: http://sg.renesas.com/products/memory/memory_category_landing.jsp; ComponentLink2Description: Datasheet; ComponentLink2URL: http://documentation.renesas.com/eng/products/memory/rej03c0362_r1ex2503264axx00ids.pdf; ComponentLink3Description: Packaging Specification; ComponentLink3URL: http://sg.renesas.com/media/products/common_info/package/pdf/ic/code/ptsp0008jc_b.pdf
footprint PTSP0008JC-B_N (TSOP, 8-Leads, Body 3x4.4mm, Pitch 0.65mm, IPC Medium Density)
footprint PTSP0008JC-B_L (TSOP, 8-Leads, Body 3x4.4mm, Pitch 0.65mm, IPC High Density)
footprint PTSP0008JC-B_M (TSOP, 8-Leads, Body 3x4.4mm, Pitch 0.65mm, IPC Low Density)
pins: 1 ~{S} (in), 2 Q (hiz), 3 ~{W} (in), 4 VSS (power), 5 D (in), 6 C (in), 7 ~{HOLD} (in), 8 VCC (power)

## R1EX25064ASA00A
designator U?
R1EX25xxx Series Serial Peripheral Interface 64k EEPROM (8-kword × 8-bit); Published: 3-Mar-2010; DatasheetVersion: Rev.0.02, Jan-2009; PackageVersion: Sep-2005; PackageReference: PRSP0008DF-B; Publisher: Altium Limited; PackageDescription: 8-Pin Plastic Small Outline Integrated Circuit 1.27 mm Pitch; Code_JEITA: P-SOP8-3.9x4.89-1.27; ComponentLink1Description: Manufacturer Link; ComponentLink1URL: http://sg.renesas.com/products/memory/memory_category_landing.jsp; ComponentLink2Description: Datasheet; ComponentLink2URL: http://documentation.renesas.com/eng/products/memory/rej03c0358_r1ex2503264axx00ads.pdf; ComponentLink3Description: Packaging Specification; ComponentLink3URL: http://sg.renesas.com/media/products/common_info/package/pdf/ic/code/prsp0008df_b.pdf
footprint PRSP0008DF-B_N (SOIC, 8-Leads, Body 4.9x3.9mm, Pitch 1.27mm, IPC Medium Density)
footprint PRSP0008DF-B_L (SOIC, 8-Leads, Body 4.9x3.9mm, Pitch 1.27mm, IPC High Density)
footprint PRSP0008DF-B_M (SOIC, 8-Leads, Body 4.9x3.9mm, Pitch 1.27mm, IPC Low Density)
pins: 1 ~{S} (in), 2 Q (hiz), 3 ~{W} (in), 4 VSS (power), 5 D (in), 6 C (in), 7 ~{HOLD} (in), 8 VCC (power)

## R1EX25064ASA00I
designator U?
R1EX25xxx Series Serial Peripheral Interface 64k EEPROM (8-kword × 8-bit); Published: 3-Mar-2010; DatasheetVersion: Rev.0.02, Jan-2009; PackageVersion: Sep-2005; PackageReference: PRSP0008DF-B; Publisher: Altium Limited; PackageDescription: 8-Pin Plastic Small Outline Integrated Circuit 1.27 mm Pitch; Code_JEITA: P-SOP8-3.9x4.89-1.27; ComponentLink1Description: Manufacturer Link; ComponentLink1URL: http://sg.renesas.com/products/memory/memory_category_landing.jsp; ComponentLink2Description: Datasheet; ComponentLink2URL: http://documentation.renesas.com/eng/products/memory/rej03c0362_r1ex2503264axx00ids.pdf; ComponentLink3Description: Packaging Specification; ComponentLink3URL: http://sg.renesas.com/media/products/common_info/package/pdf/ic/code/prsp0008df_b.pdf
footprint PRSP0008DF-B_N (SOIC, 8-Leads, Body 4.9x3.9mm, Pitch 1.27mm, IPC Medium Density)
footprint PRSP0008DF-B_L (SOIC, 8-Leads, Body 4.9x3.9mm, Pitch 1.27mm, IPC High Density)
footprint PRSP0008DF-B_M (SOIC, 8-Leads, Body 4.9x3.9mm, Pitch 1.27mm, IPC Low Density)
pins: 1 ~{S} (in), 2 Q (hiz), 3 ~{W} (in), 4 VSS (power), 5 D (in), 6 C (in), 7 ~{HOLD} (in), 8 VCC (power)

## R1EX25064ATA00A
designator U?
R1EX25xxx Series Serial Peripheral Interface 64k EEPROM (8-kword × 8-bit); Published: 3-Mar-2010; DatasheetVersion: Rev.0.02, Jan-2009; PackageVersion: Sep-2005; PackageReference: PTSP0008JC-B; Publisher: Altium Limited; PackageDescription: 8-Pin Plastic Thin Small Outline Package 0.65 mm Pitch (TSSOP-8); Code_JEITA: P-TSSOP8-4.4x3-0.65; ComponentLink1Description: Manufacturer Link; ComponentLink1URL: http://sg.renesas.com/products/memory/memory_category_landing.jsp; ComponentLink2Description: Datasheet; ComponentLink2URL: http://documentation.renesas.com/eng/products/memory/rej03c0358_r1ex2503264axx00ads.pdf; ComponentLink3Description: Packaging Specification; ComponentLink3URL: http://sg.renesas.com/media/products/common_info/package/pdf/ic/code/ptsp0008jc_b.pdf
footprint PTSP0008JC-B_N (TSOP, 8-Leads, Body 3x4.4mm, Pitch 0.65mm, IPC Medium Density)
footprint PTSP0008JC-B_L (TSOP, 8-Leads, Body 3x4.4mm, Pitch 0.65mm, IPC High Density)
footprint PTSP0008JC-B_M (TSOP, 8-Leads, Body 3x4.4mm, Pitch 0.65mm, IPC Low Density)
pins: 1 ~{S} (in), 2 Q (hiz), 3 ~{W} (in), 4 VSS (power), 5 D (in), 6 C (in), 7 ~{HOLD} (in), 8 VCC (power)

## R1EX25064ATA00I
designator U?
R1EX25xxx Series Serial Peripheral Interface 64k EEPROM (8-kword × 8-bit); Published: 3-Mar-2010; DatasheetVersion: Rev.0.02, Jan-2009; PackageVersion: Sep-2005; PackageReference: PTSP0008JC-B; Publisher: Altium Limited; PackageDescription: 8-Pin Plastic Thin Small Outline Package 0.65 mm Pitch (TSSOP-8); Code_JEITA: P-TSSOP8-4.4x3-0.65; ComponentLink1Description: Manufacturer Link; ComponentLink1URL: http://sg.renesas.com/products/memory/memory_category_landing.jsp; ComponentLink2Description: Datasheet; ComponentLink2URL: http://documentation.renesas.com/eng/products/memory/rej03c0362_r1ex2503264axx00ids.pdf; ComponentLink3Description: Packaging Specification; ComponentLink3URL: http://sg.renesas.com/media/products/common_info/package/pdf/ic/code/ptsp0008jc_b.pdf
footprint PTSP0008JC-B_N (TSOP, 8-Leads, Body 3x4.4mm, Pitch 0.65mm, IPC Medium Density)
footprint PTSP0008JC-B_L (TSOP, 8-Leads, Body 3x4.4mm, Pitch 0.65mm, IPC High Density)
footprint PTSP0008JC-B_M (TSOP, 8-Leads, Body 3x4.4mm, Pitch 0.65mm, IPC Low Density)
pins: 1 ~{S} (in), 2 Q (hiz), 3 ~{W} (in), 4 VSS (power), 5 D (in), 6 C (in), 7 ~{HOLD} (in), 8 VCC (power)

## R1EX25512ATA00A
designator U?
R1EX25xxx Series Serial Peripheral Interface 512K EEPROM (64-Kword x 8-bit); Published: 3-Mar-2010; DatasheetVersion: Rev.0.01, Dec-2008; PackageVersion: Sep-2005; PackageReference: PTSP0008JC-B; Publisher: Altium Limited; PackageDescription: 8-Pin Plastic Thin Small Outline Package 0.65 mm Pitch (TSSOP-8); Code_JEITA: P-TSSOP8-4.4x3-0.65; ComponentLink1Description: Manufacturer Link; ComponentLink1URL: http://sg.renesas.com/products/memory/memory_category_landing.jsp; ComponentLink2Description: Datasheet; ComponentLink2URL: http://documentation.renesas.com/eng/products/memory/rej03c0372_r1ex25512ata00ads.pdf; ComponentLink3Description: Packaging Specification; ComponentLink3URL: http://sg.renesas.com/media/products/common_info/package/pdf/ic/code/ptsp0008jc_b.pdf
footprint PTSP0008JC-B_N (TSOP, 8-Leads, Body 3x4.4mm, Pitch 0.65mm, IPC Medium Density)
footprint PTSP0008JC-B_L (TSOP, 8-Leads, Body 3x4.4mm, Pitch 0.65mm, IPC High Density)
footprint PTSP0008JC-B_M (TSOP, 8-Leads, Body 3x4.4mm, Pitch 0.65mm, IPC Low Density)
pins: 1 ~{S} (in), 2 Q (hiz), 3 ~{W} (in), 4 VSS (power), 5 D (in), 6 C (in), 7 ~{HOLD} (in), 8 VCC (power)

## R1LP0408CSB-5SC
designator U?
R1LP0408C-C Series 4M SRAM (512-kword x 8-bit); Published: 3-Mar-2010; DatasheetVersion: Rev.2.00, May-2004; PackageVersion: Sep-2005; PackageReference: PTSB0032DA-A; Publisher: Altium Limited; PackageDescription: 32-Pin Plastic Small Outline Package 1.27 mm Pitch; Code_JEITA: P-TSOP(2)32-10.16x20.95-1.27; ComponentLink1Description: Manufacturer Link; ComponentLink1URL: http://sg.renesas.com/products/memory/memory_category_landing.jsp; ComponentLink2Description: Datasheet; ComponentLink2URL: http://documentation.renesas.com/eng/products/memory/rej03c0077_r1lp0408c.pdf; ComponentLink3Description: Packaging Specification; ComponentLink3URL: http://sg.renesas.com/media/products/common_info/package/pdf/ic/code/ptsb0032da_a.pdf
footprint PTSB0032DA-A_N (SOP, 32-Leads, Body 20.95x10.16mm, Pitch 1.27mm, IPC Medium Density)
footprint PTSB0032DA-A_L (SOP, 32-Leads, Body 20.95x10.16mm, Pitch 1.27mm, IPC High Density)
footprint PTSB0032DA-A_M (SOP, 32-Leads, Body 20.95x10.16mm, Pitch 1.27mm, IPC Low Density)
pins: 1 A18 (in), 2 A16 (in), 3 A14 (in), 4 A12 (in), 5 A7 (in), 6 A6 (in), 7 A5 (in), 8 A4 (in), 9 A3 (in), 10 A2 (in), 11 A1 (in), 12 A0 (in), 13 I/O0 (io), 14 I/O1 (io), 15 I/O2 (io), 16 VSS (power), 17 I/O3 (io), 18 I/O4 (io), 19 I/O5 (io), 20 I/O6 (io), 21 I/O7 (io), 22 ~{CS} (in), 23 A10 (in), 24 ~{OE} (in), 25 A11 (in), 26 A9 (in), 27 A8 (in), 28 A13 (in), 29 ~{WE} (in), 30 A17 (in), 31 A15 (in), 32 VCC (power)

## R1LP0408CSB-5SI
designator U?
R1LP0408C-I Series 4M SRAM (512-kword x 8-bit) Wide Temperature Range Version; Published: 3-Mar-2010; DatasheetVersion: Rev.2.00, May-2004; PackageVersion: Sep-2005; PackageReference: PTSB0032DA-A; Publisher: Altium Limited; PackageDescription: 32-Pin Plastic Small Outline Package 1.27 mm Pitch; Code_JEITA: P-TSOP(2)32-10.16x20.95-1.27; ComponentLink1Description: Manufacturer Link; ComponentLink1URL: http://sg.renesas.com/products/memory/memory_category_landing.jsp; ComponentLink2Description: Datasheet; ComponentLink2URL: http://documentation.renesas.com/eng/products/memory/rej03c0067_r1lp0408c.pdf; ComponentLink3Description: Packaging Specification; ComponentLink3URL: http://sg.renesas.com/media/products/common_info/package/pdf/ic/code/ptsb0032da_a.pdf
footprint PTSB0032DA-A_N (SOP, 32-Leads, Body 20.95x10.16mm, Pitch 1.27mm, IPC Medium Density)
footprint PTSB0032DA-A_L (SOP, 32-Leads, Body 20.95x10.16mm, Pitch 1.27mm, IPC High Density)
footprint PTSB0032DA-A_M (SOP, 32-Leads, Body 20.95x10.16mm, Pitch 1.27mm, IPC Low Density)
pins: 1 A18 (in), 2 A16 (in), 3 A14 (in), 4 A12 (in), 5 A7 (in), 6 A6 (in), 7 A5 (in), 8 A4 (in), 9 A3 (in), 10 A2 (in), 11 A1 (in), 12 A0 (in), 13 I/O0 (io), 14 I/O1 (io), 15 I/O2 (io), 16 VSS (power), 17 I/O3 (io), 18 I/O4 (io), 19 I/O5 (io), 20 I/O6 (io), 21 I/O7 (io), 22 ~{CS} (in), 23 A10 (in), 24 ~{OE} (in), 25 A11 (in), 26 A9 (in), 27 A8 (in), 28 A13 (in), 29 ~{WE} (in), 30 A17 (in), 31 A15 (in), 32 VCC (power)

## R1LP0408CSB-7LC
designator U?
R1LP0408C-C Series 4M SRAM (512-kword x 8-bit); Published: 3-Mar-2010; DatasheetVersion: Rev.2.00, May-2004; PackageVersion: Sep-2005; PackageReference: PTSB0032DA-A; Publisher: Altium Limited; PackageDescription: 32-Pin Plastic Small Outline Package 1.27 mm Pitch; Code_JEITA: P-TSOP(2)32-10.16x20.95-1.27; ComponentLink1Description: Manufacturer Link; ComponentLink1URL: http://sg.renesas.com/products/memory/memory_category_landing.jsp; ComponentLink2Description: Datasheet; ComponentLink2URL: http://documentation.renesas.com/eng/products/memory/rej03c0077_r1lp0408c.pdf; ComponentLink3Description: Packaging Specification; ComponentLink3URL: http://sg.renesas.com/media/products/common_info/package/pdf/ic/code/ptsb0032da_a.pdf
footprint PTSB0032DA-A_N (SOP, 32-Leads, Body 20.95x10.16mm, Pitch 1.27mm, IPC Medium Density)
footprint PTSB0032DA-A_L (SOP, 32-Leads, Body 20.95x10.16mm, Pitch 1.27mm, IPC High Density)
footprint PTSB0032DA-A_M (SOP, 32-Leads, Body 20.95x10.16mm, Pitch 1.27mm, IPC Low Density)
pins: 1 A18 (in), 2 A16 (in), 3 A14 (in), 4 A12 (in), 5 A7 (in), 6 A6 (in), 7 A5 (in), 8 A4 (in), 9 A3 (in), 10 A2 (in), 11 A1 (in), 12 A0 (in), 13 I/O0 (io), 14 I/O1 (io), 15 I/O2 (io), 16 VSS (power), 17 I/O3 (io), 18 I/O4 (io), 19 I/O5 (io), 20 I/O6 (io), 21 I/O7 (io), 22 ~{CS} (in), 23 A10 (in), 24 ~{OE} (in), 25 A11 (in), 26 A9 (in), 27 A8 (in), 28 A13 (in), 29 ~{WE} (in), 30 A17 (in), 31 A15 (in), 32 VCC (power)

## R1LP0408CSB-7LI
designator U?
R1LP0408C-I Series 4M SRAM (512-kword x 8-bit) Wide Temperature Range Version; Published: 3-Mar-2010; DatasheetVersion: Rev.2.00, May-2004; PackageVersion: Sep-2005; PackageReference: PTSB0032DA-A; Publisher: Altium Limited; PackageDescription: 32-Pin Plastic Small Outline Package 1.27 mm Pitch; Code_JEITA: P-TSOP(2)32-10.16x20.95-1.27; ComponentLink1Description: Manufacturer Link; ComponentLink1URL: http://sg.renesas.com/products/memory/memory_category_landing.jsp; ComponentLink2Description: Datasheet; ComponentLink2URL: http://documentation.renesas.com/eng/products/memory/rej03c0067_r1lp0408c.pdf; ComponentLink3Description: Packaging Specification; ComponentLink3URL: http://sg.renesas.com/media/products/common_info/package/pdf/ic/code/ptsb0032da_a.pdf
footprint PTSB0032DA-A_N (SOP, 32-Leads, Body 20.95x10.16mm, Pitch 1.27mm, IPC Medium Density)
footprint PTSB0032DA-A_L (SOP, 32-Leads, Body 20.95x10.16mm, Pitch 1.27mm, IPC High Density)
footprint PTSB0032DA-A_M (SOP, 32-Leads, Body 20.95x10.16mm, Pitch 1.27mm, IPC Low Density)
pins: 1 A18 (in), 2 A16 (in), 3 A14 (in), 4 A12 (in), 5 A7 (in), 6 A6 (in), 7 A5 (in), 8 A4 (in), 9 A3 (in), 10 A2 (in), 11 A1 (in), 12 A0 (in), 13 I/O0 (io), 14 I/O1 (io), 15 I/O2 (io), 16 VSS (power), 17 I/O3 (io), 18 I/O4 (io), 19 I/O5 (io), 20 I/O6 (io), 21 I/O7 (io), 22 ~{CS} (in), 23 A10 (in), 24 ~{OE} (in), 25 A11 (in), 26 A9 (in), 27 A8 (in), 28 A13 (in), 29 ~{WE} (in), 30 A17 (in), 31 A15 (in), 32 VCC (power)

## R1LP0408CSC-5SC
designator U?
R1LP0408C-C Series 4M SRAM (512-kword x 8-bit); Published: 3-Mar-2010; DatasheetVersion: Rev.2.00, May-2004; PackageVersion: Sep-2005; PackageReference: PTSB0032DA-B; Publisher: Altium Limited; PackageDescription: 32-Pin Plastic Small Outline Package 1.27 mm Pitch; Code_JEITA: P-TSOP(2)32-10.16x20.95-1.27; ComponentLink1Description: Manufacturer Link; ComponentLink1URL: http://sg.renesas.com/products/memory/memory_category_landing.jsp; ComponentLink2Description: Datasheet; ComponentLink2URL: http://documentation.renesas.com/eng/products/memory/rej03c0077_r1lp0408c.pdf; ComponentLink3Description: Packaging Specification; ComponentLink3URL: http://sg.renesas.com/media/products/common_info/package/pdf/ic/code/ptsb0032da_b.pdf
footprint PTSB0032DA-B_N (SOP, 32-Leads, Body 20.95x10.16mm, Pitch 1.27mm, IPC Medium Density)
footprint PTSB0032DA-B_L (SOP, 32-Leads, Body 20.95x10.16mm, Pitch 1.27mm, IPC High Density)
footprint PTSB0032DA-B_M (SOP, 32-Leads, Body 20.95x10.16mm, Pitch 1.27mm, IPC Low Density)
pins: 1 A18 (in), 2 A16 (in), 3 A14 (in), 4 A12 (in), 5 A7 (in), 6 A6 (in), 7 A5 (in), 8 A4 (in), 9 A3 (in), 10 A2 (in), 11 A1 (in), 12 A0 (in), 13 I/O0 (io), 14 I/O1 (io), 15 I/O2 (io), 16 VSS (power), 17 I/O3 (io), 18 I/O4 (io), 19 I/O5 (io), 20 I/O6 (io), 21 I/O7 (io), 22 ~{CS} (in), 23 A10 (in), 24 ~{OE} (in), 25 A11 (in), 26 A9 (in), 27 A8 (in), 28 A13 (in), 29 ~{WE} (in), 30 A17 (in), 31 A15 (in), 32 VCC (power)

## R1LP0408CSC-5SI
designator U?
R1LP0408C-I Series 4M SRAM (512-kword x 8-bit) Wide Temperature Range Version; Published: 3-Mar-2010; DatasheetVersion: Rev.2.00, May-2004; PackageVersion: Sep-2005; PackageReference: PTSB0032DA-B; Publisher: Altium Limited; PackageDescription: 32-Pin Plastic Small Outline Package 1.27 mm Pitch; Code_JEITA: P-TSOP(2)32-10.16x20.95-1.27; ComponentLink1Description: Manufacturer Link; ComponentLink1URL: http://sg.renesas.com/products/memory/memory_category_landing.jsp; ComponentLink2Description: Datasheet; ComponentLink2URL: http://documentation.renesas.com/eng/products/memory/rej03c0067_r1lp0408c.pdf; ComponentLink3Description: Packaging Specification; ComponentLink3URL: http://sg.renesas.com/media/products/common_info/package/pdf/ic/code/ptsb0032da_b.pdf
footprint PTSB0032DA-B_N (SOP, 32-Leads, Body 20.95x10.16mm, Pitch 1.27mm, IPC Medium Density)
footprint PTSB0032DA-B_L (SOP, 32-Leads, Body 20.95x10.16mm, Pitch 1.27mm, IPC High Density)
footprint PTSB0032DA-B_M (SOP, 32-Leads, Body 20.95x10.16mm, Pitch 1.27mm, IPC Low Density)
pins: 1 A18 (in), 2 A16 (in), 3 A14 (in), 4 A12 (in), 5 A7 (in), 6 A6 (in), 7 A5 (in), 8 A4 (in), 9 A3 (in), 10 A2 (in), 11 A1 (in), 12 A0 (in), 13 I/O0 (io), 14 I/O1 (io), 15 I/O2 (io), 16 VSS (power), 17 I/O3 (io), 18 I/O4 (io), 19 I/O5 (io), 20 I/O6 (io), 21 I/O7 (io), 22 ~{CS} (in), 23 A10 (in), 24 ~{OE} (in), 25 A11 (in), 26 A9 (in), 27 A8 (in), 28 A13 (in), 29 ~{WE} (in), 30 A17 (in), 31 A15 (in), 32 VCC (power)

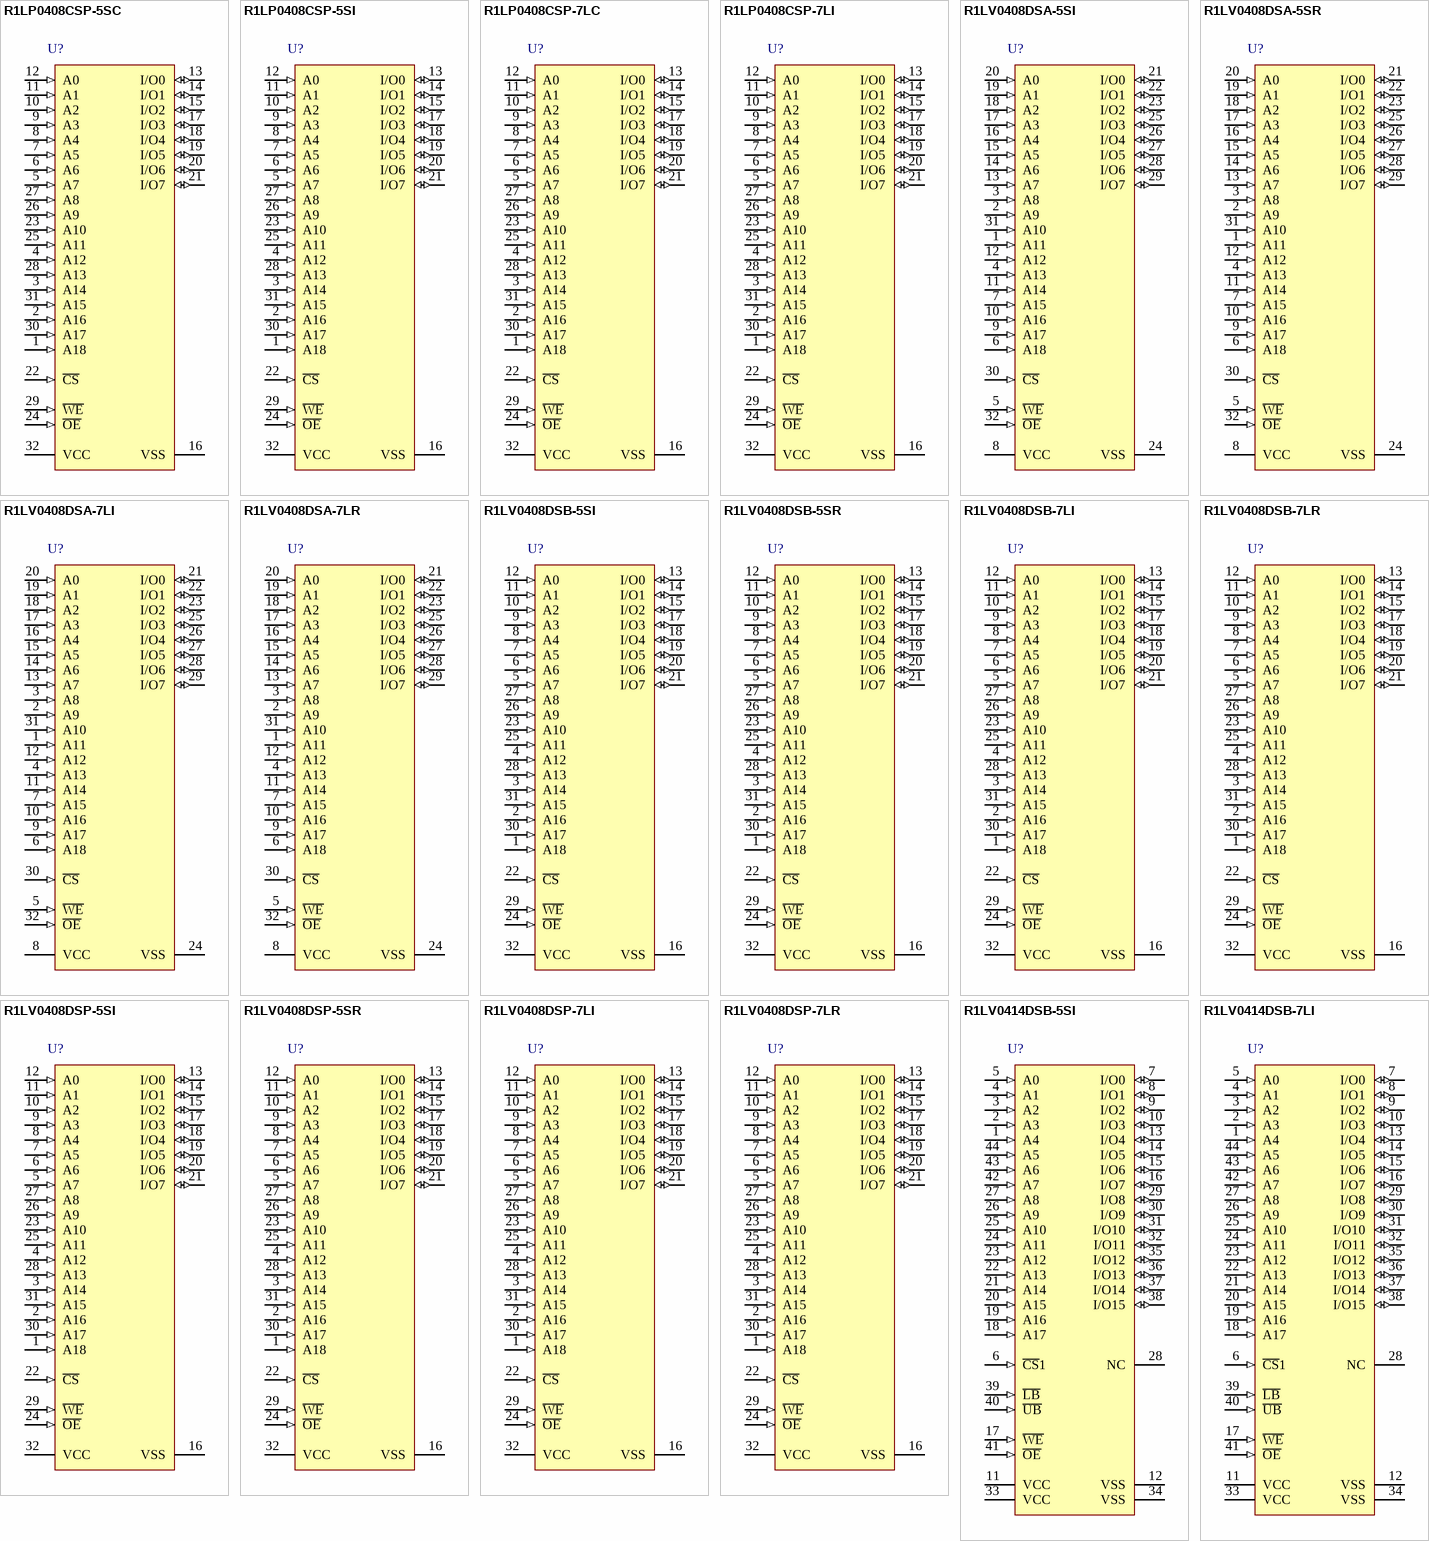
[diagram p8: symbols R1LP0408CSP-5SC to R1LV0414DSB-7LI]

## R1LP0408CSP-5SC
designator U?
R1LP0408C-C Series 4M SRAM (512-kword x 8-bit); Published: 3-Mar-2010; DatasheetVersion: Rev.2.00, May-2004; PackageVersion: Sep-2005; PackageReference: PRSP0032DA-A; Publisher: Altium Limited; PackageDescription: 32-Pin Plastic Small Outline Package, 20.8 x 11.4 mm Body, 1.27 mm Pitch; Code_JEITA: P-SOP32-11.4x20.75-1.27; ComponentLink1Description: Manufacturer Link; ComponentLink1URL: http://sg.renesas.com/products/memory/memory_category_landing.jsp; ComponentLink2Description: Datasheet; ComponentLink2URL: http://documentation.renesas.com/eng/products/memory/rej03c0077_r1lp0408c.pdf; ComponentLink3Description: Packaging Specification; ComponentLink3URL: http://sg.renesas.com/media/products/common_info/package/pdf/ic/code/prsp0032da_a.pdf
footprint PRSP0032DA-A_N (SOP, 32-Leads, Body 20.8x11.4mm, Pitch 1.27mm, IPC Medium Density)
footprint PRSP0032DA-A_L (SOP, 32-Leads, Body 20.8x11.4mm, Pitch 1.27mm, IPC High Density)
footprint PRSP0032DA-A_M (SOP, 32-Leads, Body 20.8x11.4mm, Pitch 1.27mm, IPC Low Density)
pins: 1 A18 (in), 2 A16 (in), 3 A14 (in), 4 A12 (in), 5 A7 (in), 6 A6 (in), 7 A5 (in), 8 A4 (in), 9 A3 (in), 10 A2 (in), 11 A1 (in), 12 A0 (in), 13 I/O0 (io), 14 I/O1 (io), 15 I/O2 (io), 16 VSS (power), 17 I/O3 (io), 18 I/O4 (io), 19 I/O5 (io), 20 I/O6 (io), 21 I/O7 (io), 22 ~{CS} (in), 23 A10 (in), 24 ~{OE} (in), 25 A11 (in), 26 A9 (in), 27 A8 (in), 28 A13 (in), 29 ~{WE} (in), 30 A17 (in), 31 A15 (in), 32 VCC (power)

## R1LP0408CSP-5SI
designator U?
R1LP0408C-I Series 4M SRAM (512-kword x 8-bit) Wide Temperature Range Version; Published: 3-Mar-2010; DatasheetVersion: Rev.2.00, May-2004; PackageVersion: Sep-2005; PackageReference: PRSP0032DA-A; Publisher: Altium Limited; PackageDescription: 32-Pin Plastic Small Outline Package, 20.8 x 11.4 mm Body, 1.27 mm Pitch; Code_JEITA: P-SOP32-11.4x20.75-1.27; ComponentLink1Description: Manufacturer Link; ComponentLink1URL: http://sg.renesas.com/products/memory/memory_category_landing.jsp; ComponentLink2Description: Datasheet; ComponentLink2URL: http://documentation.renesas.com/eng/products/memory/rej03c0067_r1lp0408c.pdf; ComponentLink3Description: Packaging Specification; ComponentLink3URL: http://sg.renesas.com/media/products/common_info/package/pdf/ic/code/prsp0032da_a.pdf
footprint PRSP0032DA-A_N (SOP, 32-Leads, Body 20.8x11.4mm, Pitch 1.27mm, IPC Medium Density)
footprint PRSP0032DA-A_L (SOP, 32-Leads, Body 20.8x11.4mm, Pitch 1.27mm, IPC High Density)
footprint PRSP0032DA-A_M (SOP, 32-Leads, Body 20.8x11.4mm, Pitch 1.27mm, IPC Low Density)
pins: 1 A18 (in), 2 A16 (in), 3 A14 (in), 4 A12 (in), 5 A7 (in), 6 A6 (in), 7 A5 (in), 8 A4 (in), 9 A3 (in), 10 A2 (in), 11 A1 (in), 12 A0 (in), 13 I/O0 (io), 14 I/O1 (io), 15 I/O2 (io), 16 VSS (power), 17 I/O3 (io), 18 I/O4 (io), 19 I/O5 (io), 20 I/O6 (io), 21 I/O7 (io), 22 ~{CS} (in), 23 A10 (in), 24 ~{OE} (in), 25 A11 (in), 26 A9 (in), 27 A8 (in), 28 A13 (in), 29 ~{WE} (in), 30 A17 (in), 31 A15 (in), 32 VCC (power)

## R1LP0408CSP-7LC
designator U?
R1LP0408C-C Series 4M SRAM (512-kword x 8-bit); Published: 3-Mar-2010; DatasheetVersion: Rev.2.00, May-2004; PackageVersion: Sep-2005; PackageReference: PRSP0032DA-A; Publisher: Altium Limited; PackageDescription: 32-Pin Plastic Small Outline Package, 20.8 x 11.4 mm Body, 1.27 mm Pitch; Code_JEITA: P-SOP32-11.4x20.75-1.27; ComponentLink1Description: Manufacturer Link; ComponentLink1URL: http://sg.renesas.com/products/memory/memory_category_landing.jsp; ComponentLink2Description: Datasheet; ComponentLink2URL: http://documentation.renesas.com/eng/products/memory/rej03c0077_r1lp0408c.pdf; ComponentLink3Description: Packaging Specification; ComponentLink3URL: http://sg.renesas.com/media/products/common_info/package/pdf/ic/code/prsp0032da_a.pdf
footprint PRSP0032DA-A_N (SOP, 32-Leads, Body 20.8x11.4mm, Pitch 1.27mm, IPC Medium Density)
footprint PRSP0032DA-A_L (SOP, 32-Leads, Body 20.8x11.4mm, Pitch 1.27mm, IPC High Density)
footprint PRSP0032DA-A_M (SOP, 32-Leads, Body 20.8x11.4mm, Pitch 1.27mm, IPC Low Density)
pins: 1 A18 (in), 2 A16 (in), 3 A14 (in), 4 A12 (in), 5 A7 (in), 6 A6 (in), 7 A5 (in), 8 A4 (in), 9 A3 (in), 10 A2 (in), 11 A1 (in), 12 A0 (in), 13 I/O0 (io), 14 I/O1 (io), 15 I/O2 (io), 16 VSS (power), 17 I/O3 (io), 18 I/O4 (io), 19 I/O5 (io), 20 I/O6 (io), 21 I/O7 (io), 22 ~{CS} (in), 23 A10 (in), 24 ~{OE} (in), 25 A11 (in), 26 A9 (in), 27 A8 (in), 28 A13 (in), 29 ~{WE} (in), 30 A17 (in), 31 A15 (in), 32 VCC (power)

## R1LP0408CSP-7LI
designator U?
R1LP0408C-I Series 4M SRAM (512-kword x 8-bit) Wide Temperature Range Version; Published: 3-Mar-2010; DatasheetVersion: Rev.2.00, May-2004; PackageVersion: Sep-2005; PackageReference: PRSP0032DA-A; Publisher: Altium Limited; PackageDescription: 32-Pin Plastic Small Outline Package, 20.8 x 11.4 mm Body, 1.27 mm Pitch; Code_JEITA: P-SOP32-11.4x20.75-1.27; ComponentLink1Description: Manufacturer Link; ComponentLink1URL: http://sg.renesas.com/products/memory/memory_category_landing.jsp; ComponentLink2Description: Datasheet; ComponentLink2URL: http://documentation.renesas.com/eng/products/memory/rej03c0067_r1lp0408c.pdf; ComponentLink3Description: Packaging Specification; ComponentLink3URL: http://sg.renesas.com/media/products/common_info/package/pdf/ic/code/prsp0032da_a.pdf
footprint PRSP0032DA-A_N (SOP, 32-Leads, Body 20.8x11.4mm, Pitch 1.27mm, IPC Medium Density)
footprint PRSP0032DA-A_L (SOP, 32-Leads, Body 20.8x11.4mm, Pitch 1.27mm, IPC High Density)
footprint PRSP0032DA-A_M (SOP, 32-Leads, Body 20.8x11.4mm, Pitch 1.27mm, IPC Low Density)
pins: 1 A18 (in), 2 A16 (in), 3 A14 (in), 4 A12 (in), 5 A7 (in), 6 A6 (in), 7 A5 (in), 8 A4 (in), 9 A3 (in), 10 A2 (in), 11 A1 (in), 12 A0 (in), 13 I/O0 (io), 14 I/O1 (io), 15 I/O2 (io), 16 VSS (power), 17 I/O3 (io), 18 I/O4 (io), 19 I/O5 (io), 20 I/O6 (io), 21 I/O7 (io), 22 ~{CS} (in), 23 A10 (in), 24 ~{OE} (in), 25 A11 (in), 26 A9 (in), 27 A8 (in), 28 A13 (in), 29 ~{WE} (in), 30 A17 (in), 31 A15 (in), 32 VCC (power)